# Altium footprint library CC2A25.PcbLib: 1 footprints
Each footprint in its own frame and in the unit in brackets; x right, y up, seen from the top. Pads: shape width x height; smd on the part's side, far side on the other; paste and mask are expansions set on the pad; w line width, h text height; cw(c..) or ccw(c..) is an arc to the next point about the centre after c.
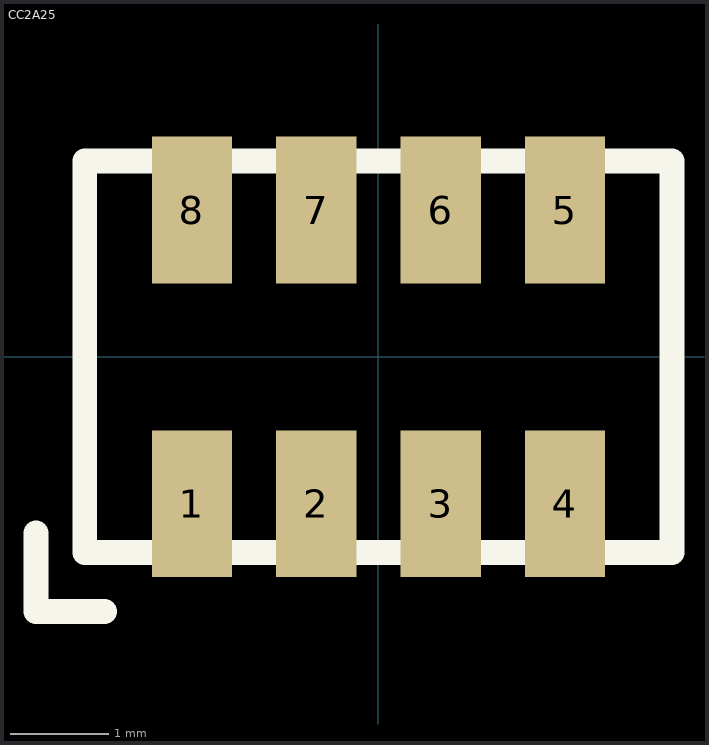
[diagram p0: the footprint, top view; thin cyan lines are the x and y axes]

## CC2A25 [mm]
pads (8):
  rect 0.82x1.5 smd: 1(-1.905,-1.5) 2(-0.635,-1.5) 3(0.635,-1.5) 4(1.905,-1.5) 5(1.905,1.5) 6(0.635,1.5) 7(-0.635,1.5) 8(-1.905,1.5)
Top Overlay:
  lines w0.254: -3.5,-1.8 -3.5,-2.6 -2.8,-2.6 ; -3,-2 -3,2 3,2 3,-2 -3,-2